# Altium integrated library ASM_Wireless_Sensor_Connectivity.IntLib: 2 symbols
Pins are listed as number, name and electrical type; pins without a type are passive.

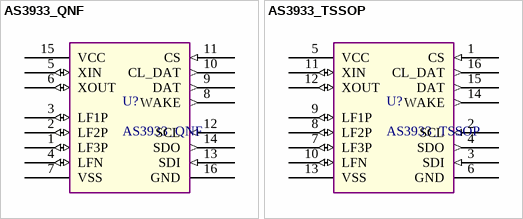
[diagram p0: symbols AS3933_QNF to AS3933_TSSOP]

## AS3933_QNF
designator U?
3D Low Frequency Wakeup Receiver; ComponentLink1Description: Datasheet; ComponentLink1URL: http://www1.futureelectronics.com/doc/AUSTRIAMICROSYSTEMS/AS3933-BQFT.pdf; Supplier 1: Digi-Key; Supplier Part Number 1: AS3933-BQFTCT-ND
footprint QFN65P400X400-16T270X270 (Quad Flat No-Lead (QFN with Tab), 0.65 mm pitch; square, 4 pin X 4 pin, 4.00 mm L X 4.00 mm W X 0.90 mm H body)
pins: 1 LF3P (io) "Input antenna channel three", 2 LF2P (io) "Input antenna channel two", 3 LF1P (io) "Input antenna channel one", 4 LFN (io) "Common ground for antenna one, two and three", 5 XIN (io) "Crystal oscillator input", 6 XOUT (io) "Crystal oscillator output", 7 VSS (power) "Substrate (Supply pad)", 8 WAKE (out) "Wakeup output IRQ", 9 DAT (out) "Data output", 10 CL_DAT (out) "Manchester recovered clock", 11 CS (in) "Chip select", 12 SCL (in) "SDI interface clock", 13 SDI (in) "SDI data input", 14 SDO (out) "SDI data output (tristate when CS is low)", 15 VCC (power) "Positive supply voltage", 16 GND (power) "Negative supply voltage", EP (power) hidden to GND "EXPOSED PAD"

## AS3933_TSSOP
designator U?
3D Low Frequency Wakeup Receiver; ComponentLink1Description: Datasheet; ComponentLink1URL: http://www1.futureelectronics.com/doc/AUSTRIAMICROSYSTEMS/AS3933-BQFT.pdf; Supplier 1: Mouser; Supplier Part Number 1: 985-AS3933-BTST
footprint SOP65P640X110-16 (Small Outline Pkg (SOP), 0.65 mm pitch; 16 pin, 5.00 mm L X 4.40 mm W X 1.10 mm H body)
pins: 1 CS (in) "Chip select", 2 SCL (in) "SDI interface clock", 3 SDI (in) "SDI data input", 4 SDO (out) "SDI data output (tristate when CS is low)", 5 VCC (power) "Positive supply voltage", 6 GND (power) "Negative supply voltage", 7 LF3P (io) "Input antenna channel three", 8 LF2P (io) "Input antenna channel two", 9 LF1P (io) "Input antenna channel one", 10 LFN (io) "Common ground for antenna one, two and three", 11 XIN (io) "Crystal oscillator input", 12 XOUT (io) "Crystal oscillator output", 13 VSS (power) "Substrate (Supply pad)", 14 WAKE (out) "Wakeup output IRQ", 15 DAT (out) "Data output", 16 CL_DAT (out) "Manchester recovered clock"